# Altium footprint library 10uH 1.1A.PcbLib: 1 footprints
Each footprint in its own frame and in the unit in brackets; x right, y up, seen from the top. Pads: shape width x height; smd on the part's side, far side on the other; paste and mask are expansions set on the pad; w line width, h text height; cw(c..) or ccw(c..) is an arc to the next point about the centre after c.
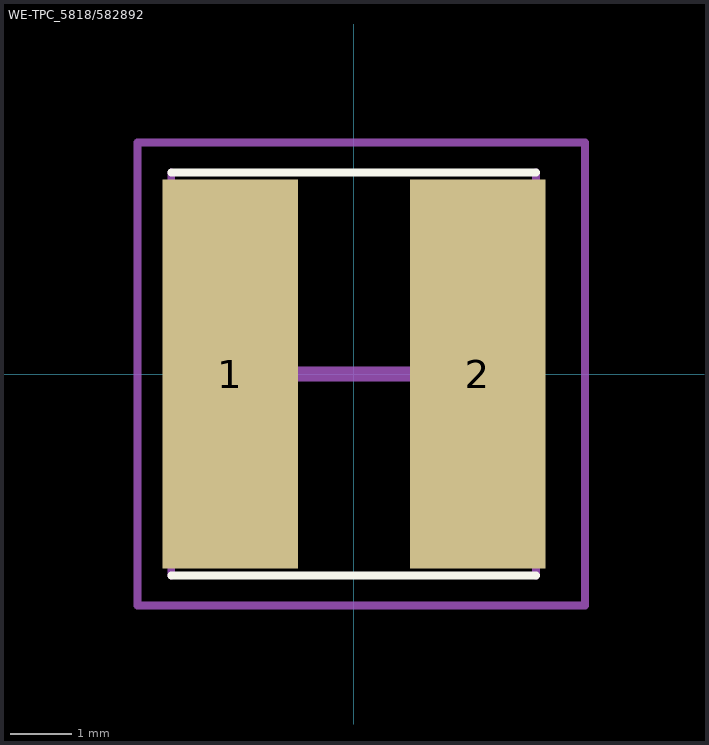
[diagram p0: the footprint, top view; thin cyan lines are the x and y axes]

## WE-TPC_5818/582892 [mm]
pads (2):
  rect 2.2x6.3 smd: 1(-2,0) 2(2.01,0)
Top Overlay:
  lines w0.127: -2.956,-3.267 2.956,-3.267 ; -2.956,3.267 2.956,3.267
Mechanical 13:
  lines w0.127: -2.956,-3.267 -2.956,3.267 ; 2.956,-3.267 2.956,3.267
  lines w0.25: -2.05,0 2.05,0
Mechanical 15:
  lines w0.127: -3.5,-3.75 3.75,-3.75 3.75,3.75 -3.5,3.75 -3.5,-3.75